# Altium schematic symbol library IC_Audio.SchLib: 8 symbols
Pins are listed as number, name and electrical type; pins without a type are passive.

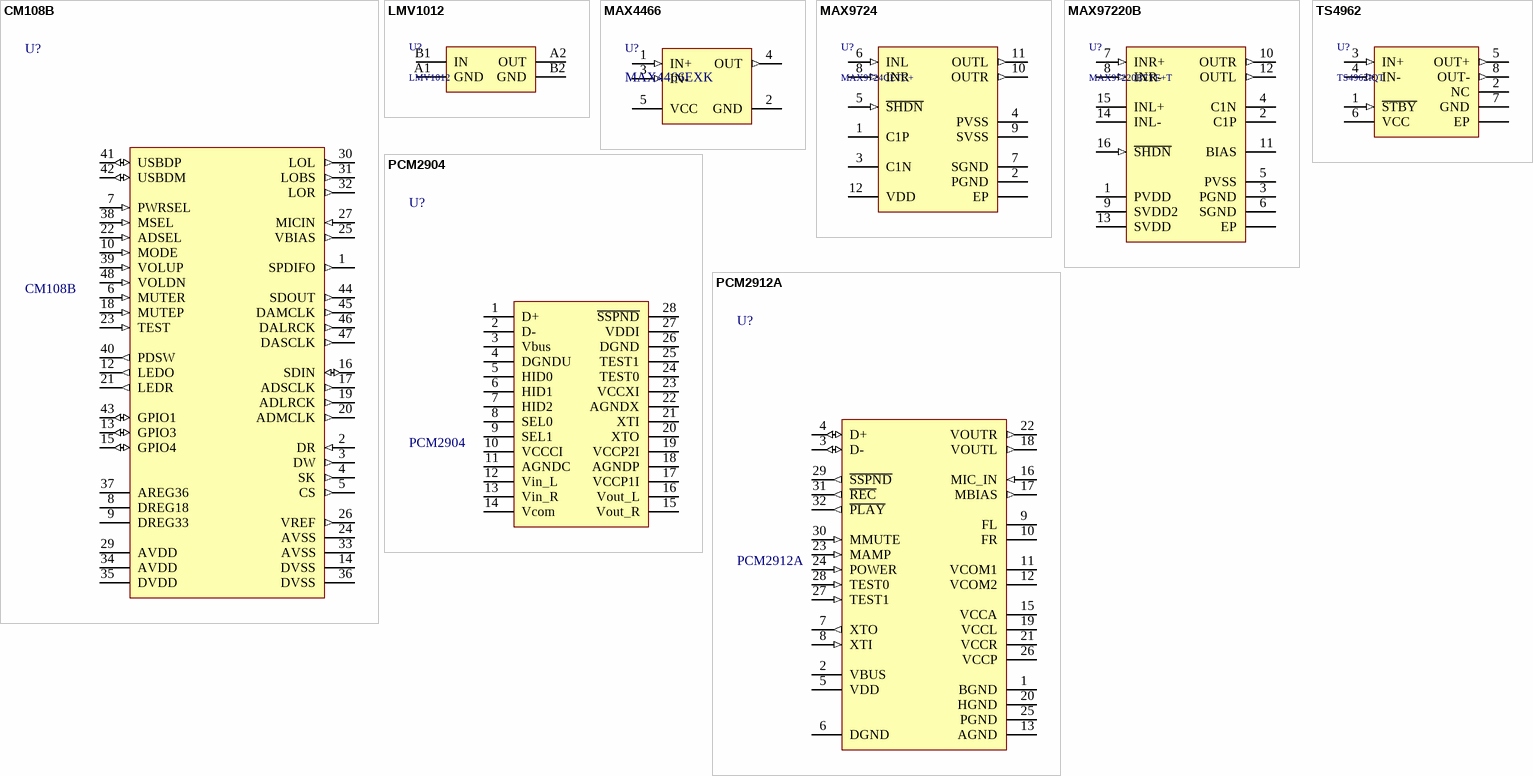
[diagram p0: symbols CM108B to TS4962]

## CM108B
designator U?
USB audio single chip
footprint LQFP48-0.5
pins: 1 SPDIFO (out), 2 DR (in), 3 DW (out), 4 SK (out), 5 CS (out), 6 MUTER (in), 7 PWRSEL (in), 8 DREG18 (power), 9 DREG33 (power), 10 MODE (in), 12 LEDO (out), 13 GPIO3 (io), 14 DVSS (power), 15 GPIO4 (io), 16 SDIN (io), 17 ADSCLK (out), 18 MUTEP (in), 19 ADLRCK (out), 20 ADMCLK (out), 21 LEDR (out), 22 ADSEL (in), 23 TEST (in), 24 AVSS (power), 25 VBIAS (out), 26 VREF (out), 27 MICIN (in), 29 AVDD (power), 30 LOL (out), 31 LOBS (out), 32 LOR (out), 33 AVSS (power), 34 AVDD (power), 35 DVDD (power), 36 DVSS (power), 37 AREG36 (power), 38 MSEL (in), 39 VOLUP (in), 40 PDSW (out), 41 USBDP (io), 42 USBDM (io), 43 GPIO1 (io), 44 SDOUT (out), 45 DAMCLK (out), 46 DALRCK (out), 47 DASCLK (out), 48 VOLDN (in) "Volume down (edge trigger with de-bouncing)"

## LMV1012
designator U?
Pre-Amplified IC for Highgain 2-Wire Microphones; HelpURL: http://www.ti.com/lit/ds/symlink/lmv1012.pdf
footprint BGA4-0.5-1x1 (BGA, 4-Leads, Body 1,03x0,95mmx0,35mm, Pitch 0,50mm)
pins: A1 GND (power), A2 OUT (power), B1 IN (power), B2 GND (power)

## MAX4466
designator U?, comment MAX4466EXK
Microphone / Preamplifiers with Complete Shutdown; HelpURL: https://static.chipdip.ru/lib/824/DOC004824272.pdf; Supplier: https://www.chipdip.ru/product/max4466exk-t; Name: MAX4466EXK; BOMString: MAX4466EXK
footprint SOT-323-5
pins: 1 IN+ (in), 2 GND, 3 IN- (in), 4 OUT (out), 5 VCC

## MAX9724
designator U?, comment MAX9724CETC+
Stereo Headphone Amplifier; HelpURL: http://pdfserv.maximintegrated.com/package_dwgs/21-0136.PDF
footprint QFN-12-0.5-3X3 (QFN, 12-Leads, Body 3,00x3,00mm, Pitch 0,50mm, Thermal Pad 1,10x1,10mm, IPC High Density)
pins: 0 EP (power), 1 C1P, 2 PGND (power), 3 C1N, 4 PVSS (power), 5 ~{SHDN} (in), 6 INL (in), 7 SGND (power), 8 INR (in), 9 SVSS (power), 10 OUTR (out), 11 OUTL (out), 12 VDD (power)

## MAX97220B
designator U?, comment MAX97220BETE+T
Diff-In DirectDrive Line Drivers/Headphone Amps; HelpURL: http://datasheets.maximintegrated.com/en/ds/MAX97220A-MAX97220E.pdf
footprint QFN-16-0.5-3x3_TP
pins: 0 EP (power), 1 PVDD, 2 C1P (power), 3 PGND, 4 C1N (power), 5 PVSS (power), 6 SGND (power), 7 INR+ (in), 8 INR- (in), 9 SVDD2 (power), 10 OUTR (out), 11 BIAS (power), 12 OUTL (out), 13 SVDD (power), 14 INL- (power), 15 INL+ (power), 16 ~{SHDN} (in)

## PCM2904
designator U?
USB audio codec
footprint TSSOP-28-0.65 (SOP, 28-Leads, Body 10,00x5,30mm, Pitch 0,65mm, IPC High Density)
pins: 1 D+, 2 D-, 3 Vbus, 4 DGNDU, 5 HID0, 6 HID1, 7 HID2, 8 SEL0, 9 SEL1, 10 VCCCI, 11 AGNDC, 12 Vin_L, 13 Vin_R, 14 Vcom, 15 Vout_R, 16 Vout_L, 17 VCCP1I, 18 AGNDP, 19 VCCP2I, 20 XTO, 21 XTI, 22 AGNDX, 23 VCCXI, 24 TEST0, 25 TEST1, 26 DGND, 27 VDDI, 28 ~{SSPND}

## PCM2912A
designator U?
USB audio codec; HelpURL: http://www.ti.com/lit/ds/symlink/pcm2912a.pdf; Supplier: http://www.digikey.com/product-detail/en/texas-instruments/PCM2912APJTR/296-39145-1-ND/5143156
footprint TQFP-32-0.8 (TQFP, 32-Leads, Body 7,00x7,00mm, Pitch 0,80mm, IPC High Density)
pins: 1 BGND, 2 VBUS, 3 D- (io), 4 D+ (io), 5 VDD, 6 DGND, 7 XTO (out), 8 XTI (in), 9 FL, 10 FR, 11 VCOM1, 12 VCOM2, 13 AGND, 15 VCCA, 16 MIC_IN (in), 17 MBIAS (out), 18 VOUTL (out), 19 VCCL, 20 HGND, 21 VCCR, 22 VOUTR (out), 23 MAMP (in), 24 POWER (in), 25 PGND, 26 VCCP, 27 TEST1 (in), 28 TEST0 (in), 29 ~{SSPND} (out), 30 MMUTE (in), 31 ~{REC} (out), 32 ~{PLAY} (out)

## TS4962
designator U?, comment TS4962IQT
2.8 W filter-free mono class D audio power amplifier; HelpURL: https://www.st.com/resource/en/datasheet/ts4962.pdf; Supplier: https://www.electronshik.ru/item/ST/TS4962IQT
footprint DFN-8-0.65-3x3_TP
pins: 0 EP, 1 ~{STBY} (in), 2 NC, 3 IN+ (in), 4 IN- (in), 5 OUT+ (out), 6 VCC (power), 7 GND, 8 OUT- (out)